# Altium footprint library CYPCBLIB.PcbLib: 185 footprints (part 9 of 12)
Each footprint in its own frame and in the unit in brackets; x right, y up, seen from the top. Pads: shape width x height; smd on the part's side, far side on the other; paste and mask are expansions set on the pad; w line width, h text height; cw(c..) or ccw(c..) is an arc to the next point about the centre after c.
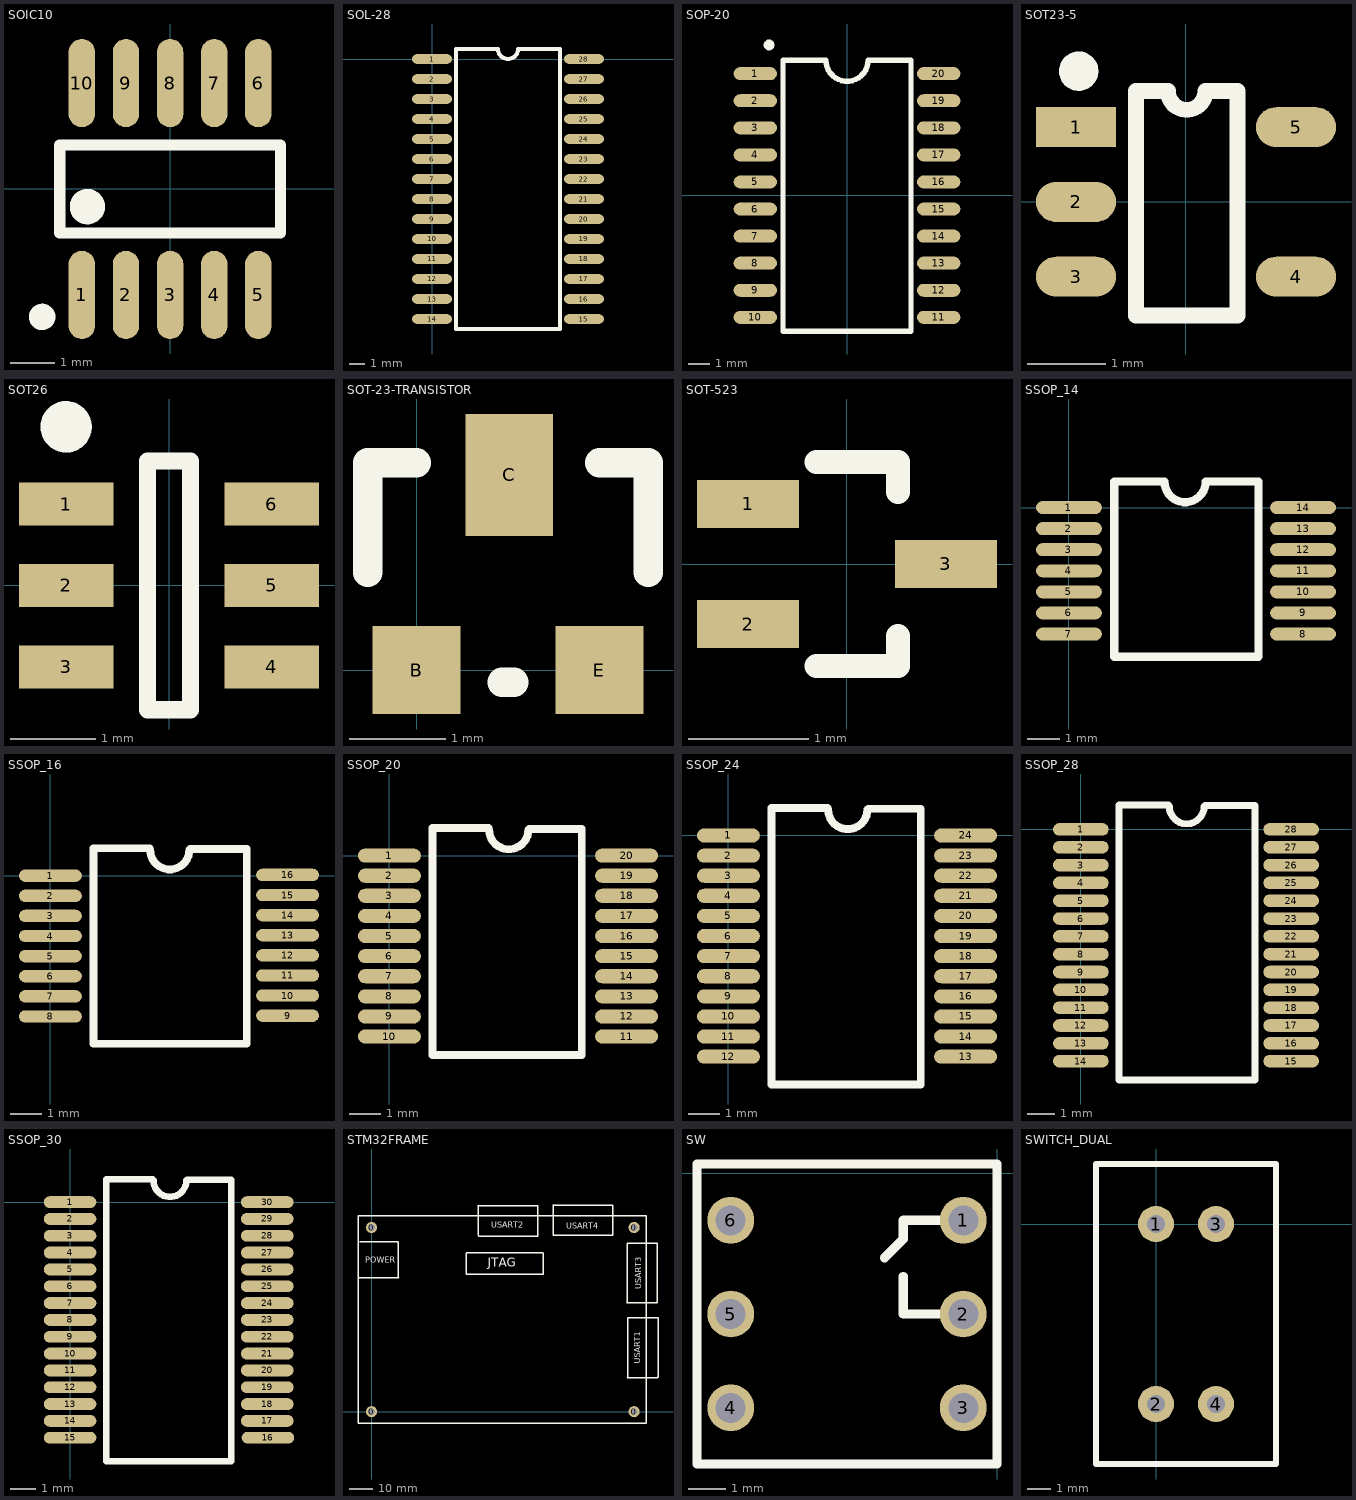
[diagram p8: the footprints below, top view; thin cyan lines are the x and y axes]

## SOIC10 [mm]
pads (10):
  oval 0.6x2 smd: 1(-2,-2.4) 2(-1,-2.4) 3(0,-2.4) 4(1,-2.4) 5(2,-2.4) 6(2,2.4) 7(1,2.4) 8(0,2.4) 9(-1,2.4) 10(-2,2.4)
TopOverlay:
  circle w0.4: c-1.875,-0.4 r0.2
  circle w0.3: c-2.9,-2.9 r0.15
  lines w0.254: -2.5,-1 2.5,-1 2.5,1 -2.5,1 -2.5,-1

## SOL-28 [mil]
pads (28):
  oval 100x24 smd: 1(0,0) 2(0,-50) 3(0,-100) 4(0,-150) 5(0,-200) 6(0,-250) 7(0,-300) 8(0,-350) 9(0,-400) 10(0,-450) 11(0,-500) 12(0,-550) 13(0,-600) 14(0,-650) 15(380,-650) 16(380,-600) 17(380,-550) 18(380,-500) 19(380,-450) 20(380,-400) 21(380,-350) 22(380,-300) 23(380,-250) 24(380,-200) 25(380,-150) 26(380,-100) 27(380,-50) 28(380,0)
TopOverlay:
  lines w10: 60,-675 60,25 165,25 ccw(c190,25) 215,25 320,25 320,-675 60,-675

## SOP-20 [mil]
pads (20):
  oval 80x24 smd: 1(-169.29,225) 2(-169.29,175) 3(-169.29,125) 4(-169.29,75) 5(-169.29,25) 6(-169.29,-25) 7(-169.29,-75) 8(-169.29,-125) 9(-169.29,-175) 10(-169.29,-225) 11(169.29,-225) 12(169.29,-175) 13(169.29,-125) 14(169.29,-75) 15(169.29,-25) 16(169.29,25) 17(169.29,75) 18(169.29,125) 19(169.29,175) 20(169.29,225)
TopOverlay:
  circle w9.84: c-143.92,278 r4.92
  lines w10: -118.11,-251 -118.11,250 -39,250 ccw(c0,250) 39,250 118.11,250 118.11,-251 -118.11,-251

## SOT23-5 [mil] "SOT23, 5-Leads, Body 3.1x3.0mm (max), Pitch 0.95mm, IPC Medium Density"
height 43.31
pads (5):
  rect 40x20 smd: 1(-55,37.4)
  oval 40x20 smd: 2(-55,0) 3(-55,-37.4) 4(55,-37.4) 5(55,37.4)
TopOverlay:
  circle w9.84: c-53.66,65.4 r4.92
  lines w7.87: -25,55.4 -25,-56.8 25.7,-56.8 25.7,55.4 ; -9,55.4 ccw(c0.35,55.4) 9.7,55.4
  lines w8: -25,55.4 -9,55.4 ; 9.7,55.4 25.7,55.4

## SOT26 [mm]
height 1.45
pads (6):
  rect 1.1x0.5 smd: 1(-1.2,0.95) 2(-1.2,0) 3(-1.2,-0.95) 4(1.2,-0.95) 5(1.2,0) 6(1.2,0.95)
TopOverlay:
  circle w0.3: c-1.2,1.85 r0.15
  lines w0.2: -0.25,-1.45 0.25,-1.45 0.25,1.45 -0.25,1.45 -0.25,-1.45

## SOT-23-TRANSISTOR [mil]
pads (3):
  rect 36x36 smd: B(0,0) E(75,0)
  rect 36x50 smd: C(38,80)
TopOverlay:
  lines w12: -20,40 -20,85 0,85 ; 35,-5 40,-5 ; 75,85 95,85 95,40

## SOT-523 [mm] "SOT23, 3-Leads, Body 1.7x1.8mm (max), Pitch 0.50mm, IPC Medium Density"
height 0.9
pads (3):
  rect 0.85x0.4 smd: 1(-0.825,0.5) 2(-0.825,-0.5) 3(0.825,0)
TopOverlay:
  lines w0.2: -0.254,-0.85 0.425,-0.85 0.425,-0.6 ; -0.254,0.85 0.425,0.85 0.425,0.6

## SSOP_14 [mm]
pads (14):
  oval 2.032x0.4 smd: 1(0,0) 2(0,-0.65) 3(0,-1.3) 4(0,-1.95) 5(0,-2.6) 6(0,-3.25) 7(0,-3.9) 8(7.219,-3.9) 9(7.219,-3.25) 10(7.219,-2.6) 11(7.219,-1.95) 12(7.219,-1.3) 13(7.219,-0.65) 14(7.219,0)
TopOverlay:
  lines w0.254: 1.395,0.8 2.946,0.8 ccw(c3.581,0.8) 4.216,0.8 ; 1.397,-4.6 1.397,0.8 ; 1.402,-4.6 5.842,-4.6 5.842,0.8 4.246,0.8

## SSOP_16 [mil]
pads (16):
  oval 80x15.75 smd: 1(0,0) 2(0,-25.6) 3(0,-51.2) 4(0,-76.8) 5(0,-102.4) 6(0,-128) 7(0,-153.6) 8(0,-179.2) 9(302,-178.2) 10(302,-152.6) 11(302,-127) 12(302,-101.4) 13(302,-75.8) 14(302,-50.2) 15(302,-24.6) 16(302,1)
TopOverlay:
  lines w10: 126,35 55,35 55,-214 250,-214 250,34 178,34 ; 127,33 ccw(c152,33) 177,33

## SSOP_20 [mil]
pads (20):
  oval 80x18 smd: 1(0,0) 2(0,-25.6) 3(0,-51.2) 4(0,-76.8) 5(0,-102.4) 6(0,-128) 7(0,-153.6) 8(0,-179.2) 9(0,-204.8) 10(0,-230.4) 11(302,-230.4) 12(302,-204.8) 13(302,-179.2) 14(302,-153.6) 15(302,-128) 16(302,-102.4) 17(302,-76.8) 18(302,-51.2) 19(302,-25.6) 20(302,0)
TopOverlay:
  lines w10: 126,35 55,35 55,-254 245,-254 245,34 178,34 ; 127,33 ccw(c152,33) 177,33

## SSOP_24 [mil]
pads (24):
  oval 80x18 smd: 1(0,0) 2(0,-25.6) 3(0,-51.2) 4(0,-76.8) 5(0,-102.4) 6(0,-128) 7(0,-153.6) 8(0,-179.2) 9(0,-204.8) 10(0,-230.4) 11(0,-256) 12(0,-281.6) 13(302,-281.6) 14(302,-256) 15(302,-230.4) 16(302,-204.8) 17(302,-179.2) 18(302,-153.6) 19(302,-128) 20(302,-102.4) 21(302,-76.8) 22(302,-51.2) 23(302,-25.6) 24(302,0)
TopOverlay:
  lines w10: 126,35 55,35 55,-317 245,-317 245,34 178,34 ; 127,33 ccw(c152,33) 177,33

## SSOP_28 [mil]
pads (28):
  oval 80x18 smd: 1(0,0) 2(0,-25.6) 3(0,-51.2) 4(0,-76.8) 5(0,-102.4) 6(0,-128) 7(0,-153.6) 8(0,-179.2) 9(0,-204.8) 10(0,-230.4) 11(0,-256) 12(0,-281.6) 13(0,-307.2) 14(0,-332.8) 15(302,-332.8) 16(302,-307.2) 17(302,-281.6) 18(302,-256) 19(302,-230.4) 20(302,-204.8) 21(302,-179.2) 22(302,-153.6) 23(302,-128) 24(302,-102.4) 25(302,-76.8) 26(302,-51.2) 27(302,-25.6) 28(302,0)
TopOverlay:
  lines w10: 126,35 55,35 55,-360 250,-360 250,34 178,34 ; 127,33 ccw(c152,33) 177,33

## SSOP_30 [mil]
pads (30):
  oval 80x18 smd: 1(0,0) 2(0,-25.6) 3(0,-51.2) 4(0,-76.8) 5(0,-102.4) 6(0,-128) 7(0,-153.6) 8(0,-179.2) 9(0,-204.8) 10(0,-230.4) 11(0,-256) 12(0,-281.6) 13(0,-307.2) 14(0,-332.8) 15(0,-358.4) 16(301,-358.4) 17(300,-332.8) 18(300,-307.2) 19(300,-281.6) 20(300,-256) 21(300,-230.4) 22(300,-204.8) 23(300,-179.2) 24(300,-153.6) 25(300,-128) 26(300,-102.4) 27(300,-76.8) 28(300,-51.2) 29(300,-25.6) 30(300,0)
TopOverlay:
  lines w10: 126,35 55,35 55,-394 245,-394 245,34 178,34 ; 127,33 ccw(c152,33) 177,33

## STM32FRAME [mm]
pads (4):
  round 4.8 hole 2.9: 0(0,0) 0(0,79.375) 0(113.157,0) 0(113.157,79.375)
TopOverlay:
  lines w0.635: -5.842,57.658 11.684,57.658 11.43,57.912 11.43,73.152 -5.08,73.152 ; 40.894,68.326 40.894,59.182 73.914,59.182 73.914,68.326 ; 40.894,68.58 73.914,68.58 ; -5.842,-4.953 118.364,-4.953 118.364,84.455 -5.842,84.455 -5.842,-4.953 ; 45.974,75.946 46.228,75.692 71.628,75.692 71.628,88.646 46.228,88.646 45.974,88.9 45.974,75.946 ; 78.232,76.2 78.486,75.946 103.886,75.946 103.886,88.9 78.486,88.9 78.232,89.154 78.232,76.2 ; 109.982,46.99 110.236,47.244 110.236,72.644 123.19,72.644 123.19,47.244 122.936,46.99 109.982,46.99 ; 110.236,14.732 110.49,14.986 110.49,40.386 123.444,40.386 123.444,14.986 123.19,14.732 110.236,14.732
  text "USART3" at 116.332,52.832 h2.54
  text "USART1" at 115.824,20.574 h2.54
  text "USART4" at 83.82,78.74 h2.54
  text "USART2" at 51.562,79.248 h2.54
  text "POWER" at -2.794,64.262 h2.54
  text "JTAG" at 50.038,62.484 h3.81

## SW [mil]
pads (6):
  round 50 hole 32: 1(-35.98,-50) 2(-35.98,-150) 3(-35.98,-250) 4(-284.02,-250) 5(-284.02,-150) 6(-284.02,-50)
TopOverlay:
  lines w10: -120,-90 -100,-70 -100,-50 -60,-50 ; -100,-110 -100,-150 -60,-150 ; -320,-310 -320,10 0,10 0,-310 -320,-310

## SWITCH_DUAL [mil]
pads (4):
  round 60 hole 30: 1(0,0) 2(0,-300) 3(100,0) 4(100,-300)
TopOverlay:
  lines w10: -100,-400 -100,100 200,100 200,-400 -100,-400